# Altium schematic symbol library Schlib.SchLib: 2 symbols
Pins are listed as number, name and electrical type; pins without a type are passive.

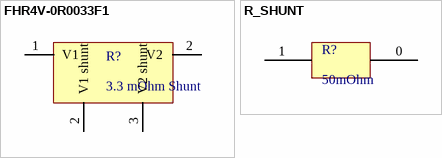
[diagram p0: symbols FHR4V-0R0033F1 to R_SHUNT]

## FHR4V-0R0033F1
designator R?, comment 3.3 mOhm Shunt
3.3 mOhms ±1% 40W Through Hole Resistor 4-SIP Current Sense Metal Foil; ComponentLink1Description: digikey; ComponentLink1URL: https://www.digikey.ca/product-detail/en/riedon/FHR4V-0R0033F1/696-1803-5-ND/7867333
footprint FHR4V-0R0033F1 (3.3 mOhms ±1% 40W Through Hole Resistor 4-SIP Current Sense Metal Foil)
pins: 1 V1, 2 V2, 2 V1 shunt, 3 V2 shunt

## R_SHUNT
designator R?, comment 50mOhm
50 mOhms ±1% 10W Chip Resistor; Resistance: 50 mOhm
footprint R_Shunt
pins: 0, 1